# Altium footprint library SSOP-16.PcbLib: 1 footprints
Each footprint in its own frame and in the unit in brackets; x right, y up, seen from the top. Pads: shape width x height; smd on the part's side, far side on the other; paste and mask are expansions set on the pad; w line width, h text height; cw(c..) or ccw(c..) is an arc to the next point about the centre after c.
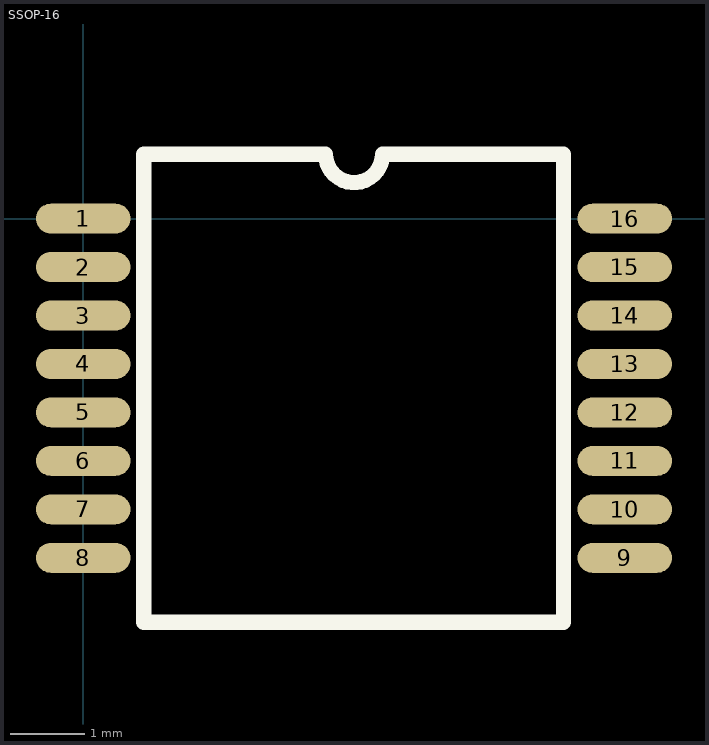
[diagram p0: the footprint, top view; thin cyan lines are the x and y axes]

## SSOP-16 [mm]
height 2.032
pads (16):
  oval 1.27x0.4 smd: 1(0,0) 2(0,-0.65) 3(0,-1.3) 4(0,-1.95) 5(0,-2.6) 6(0,-3.25) 7(0,-3.9) 8(0,-4.55) 9(7.264,-4.55) 10(7.264,-3.9) 11(7.264,-3.25) 12(7.264,-2.6) 13(7.264,-1.95) 14(7.264,-1.3) 15(7.264,-0.65) 16(7.264,0)
TopOverlay:
  lines w0.203: 0.813,-5.414 0.813,0.864 3.252,0.864 ccw(c3.633,0.864) 4.014,0.864 6.443,0.864 6.443,-5.414 0.813,-5.414